# EAGLE library part PAM2306AYPKE (library pimoroni-ics)
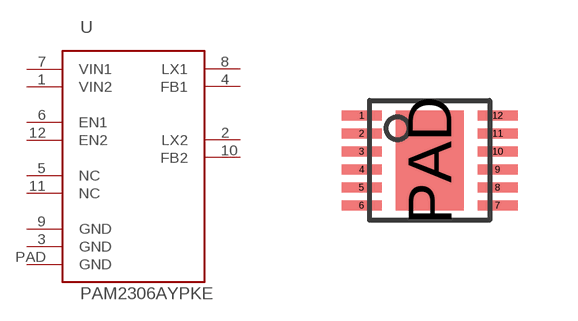
[diagram p36: symbol with the pads of WDFN-12L; footprint WDFN-12L]

Designator prefix U

## PAM2306AYPKE  [WDFN-12L]
1  VIN2  pwr
2  LX2  pwr
3  GND  pwr
4  FB1  in
5  NC  nc
6  EN1  in
7  VIN1  pwr
8  LX1  pwr
9  GND  pwr
10  FB2  in
11  NC  nc
12  EN2  in
PAD  GND  pwr

## Footprint WDFN-12L (pad centres in mm)
smd 1 x 0.25: 1 -1.7,1.125; 2 -1.7,0.675; 3 -1.7,0.225; 4 -1.7,-0.225; 5 -1.7,-0.675; 6 -1.7,-1.125; 7 1.7,-1.125; 8 1.7,-0.675; 9 1.7,-0.225; 10 1.7,0.225; 11 1.7,0.675; 12 1.7,1.125
smd 1.7 x 2.5: PAD 0,0